# EAGLE library part 6540 (library commodore)
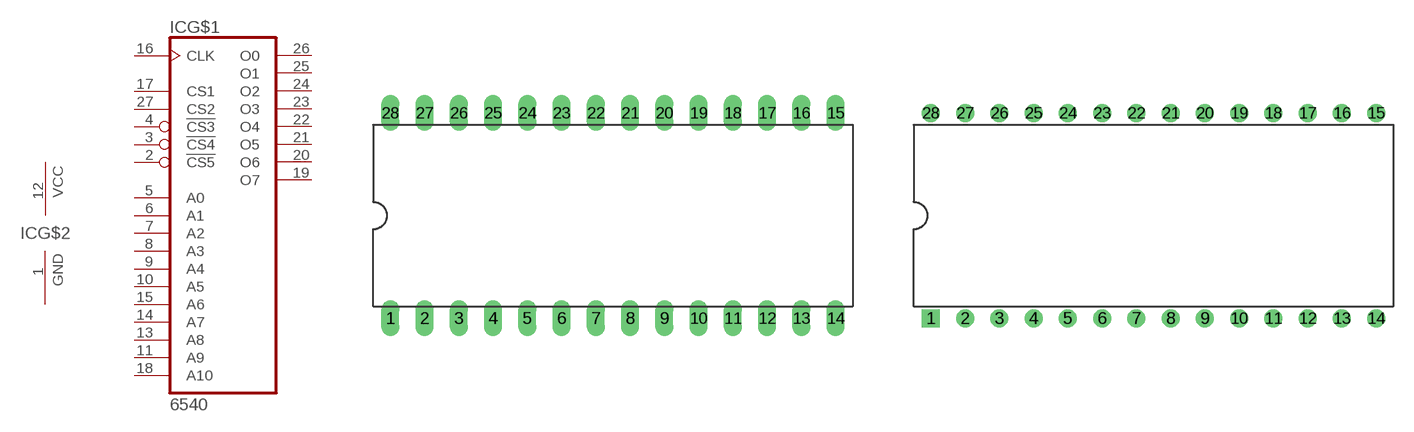
[diagram p44: symbol with the pads of DIL28; footprints DIL28, DIL28-ROUNDPAD]

Designator prefix IC; gates G$1=6540 G$2=PWR-GND

## 6540  [DIL28]
1  G$2:GND  pwr
2  G$1:!CS5  in
3  G$1:!CS4  in
4  G$1:!CS3  in
5  G$1:A0  in
6  G$1:A1  in
7  G$1:A2  in
8  G$1:A3  in
9  G$1:A4  in
10  G$1:A5  in
11  G$1:A9  in
12  G$2:VCC  pwr
13  G$1:A8  in
14  G$1:A7  in
15  G$1:A6  in
16  G$1:CLK  in
17  G$1:CS1  in
18  G$1:A10  in
19  G$1:O7  hiz
20  G$1:O6  hiz
21  G$1:O5  hiz
22  G$1:O4  hiz
23  G$1:O3  hiz
24  G$1:O2  hiz
25  G$1:O1  hiz
26  G$1:O0  hiz
27  G$1:CS2  in

## 6540-RP  [DIL28-ROUNDPAD]
Pads as for DIL28

## Footprint DIL28 (pad centres in mm)
Dual In Line Package
drill 0.813 long: 1 -16.51,-7.62; 2 -13.97,-7.62; 3 -11.43,-7.62; 4 -8.89,-7.62; 5 -6.35,-7.62; 6 -3.81,-7.62; 7 -1.27,-7.62; 8 1.27,-7.62; 9 3.81,-7.62; 10 6.35,-7.62; 11 8.89,-7.62; 12 11.43,-7.62; 13 13.97,-7.62; 14 16.51,-7.62; 15 16.51,7.62; 16 13.97,7.62; 17 11.43,7.62; 18 8.89,7.62; 19 6.35,7.62; 20 3.81,7.62; 21 1.27,7.62; 22 -1.27,7.62; 23 -3.81,7.62; 24 -6.35,7.62; 25 -8.89,7.62; 26 -11.43,7.62; 27 -13.97,7.62; 28 -16.51,7.62

## Footprint DIL28-ROUNDPAD (pad centres in mm)
Dual In Line Package
drill 0.813 square: 1 -16.51,-7.62
drill 0.813: 2 -13.97,-7.62; 3 -11.43,-7.62; 4 -8.89,-7.62; 5 -6.35,-7.62; 6 -3.81,-7.62; 7 -1.27,-7.62; 8 1.27,-7.62; 9 3.81,-7.62; 10 6.35,-7.62; 11 8.89,-7.62; 12 11.43,-7.62; 13 13.97,-7.62; 14 16.51,-7.62; 15 16.51,7.62; 16 13.97,7.62; 17 11.43,7.62; 18 8.89,7.62; 19 6.35,7.62; 20 3.81,7.62; 21 1.27,7.62; 22 -1.27,7.62; 23 -3.81,7.62; 24 -6.35,7.62; 25 -8.89,7.62; 26 -11.43,7.62; 27 -13.97,7.62; 28 -16.51,7.62